# Altium schematic symbol library Virtex.SchLib: 30 symbols
Pins are listed as number, name and electrical type; pins without a type are passive.

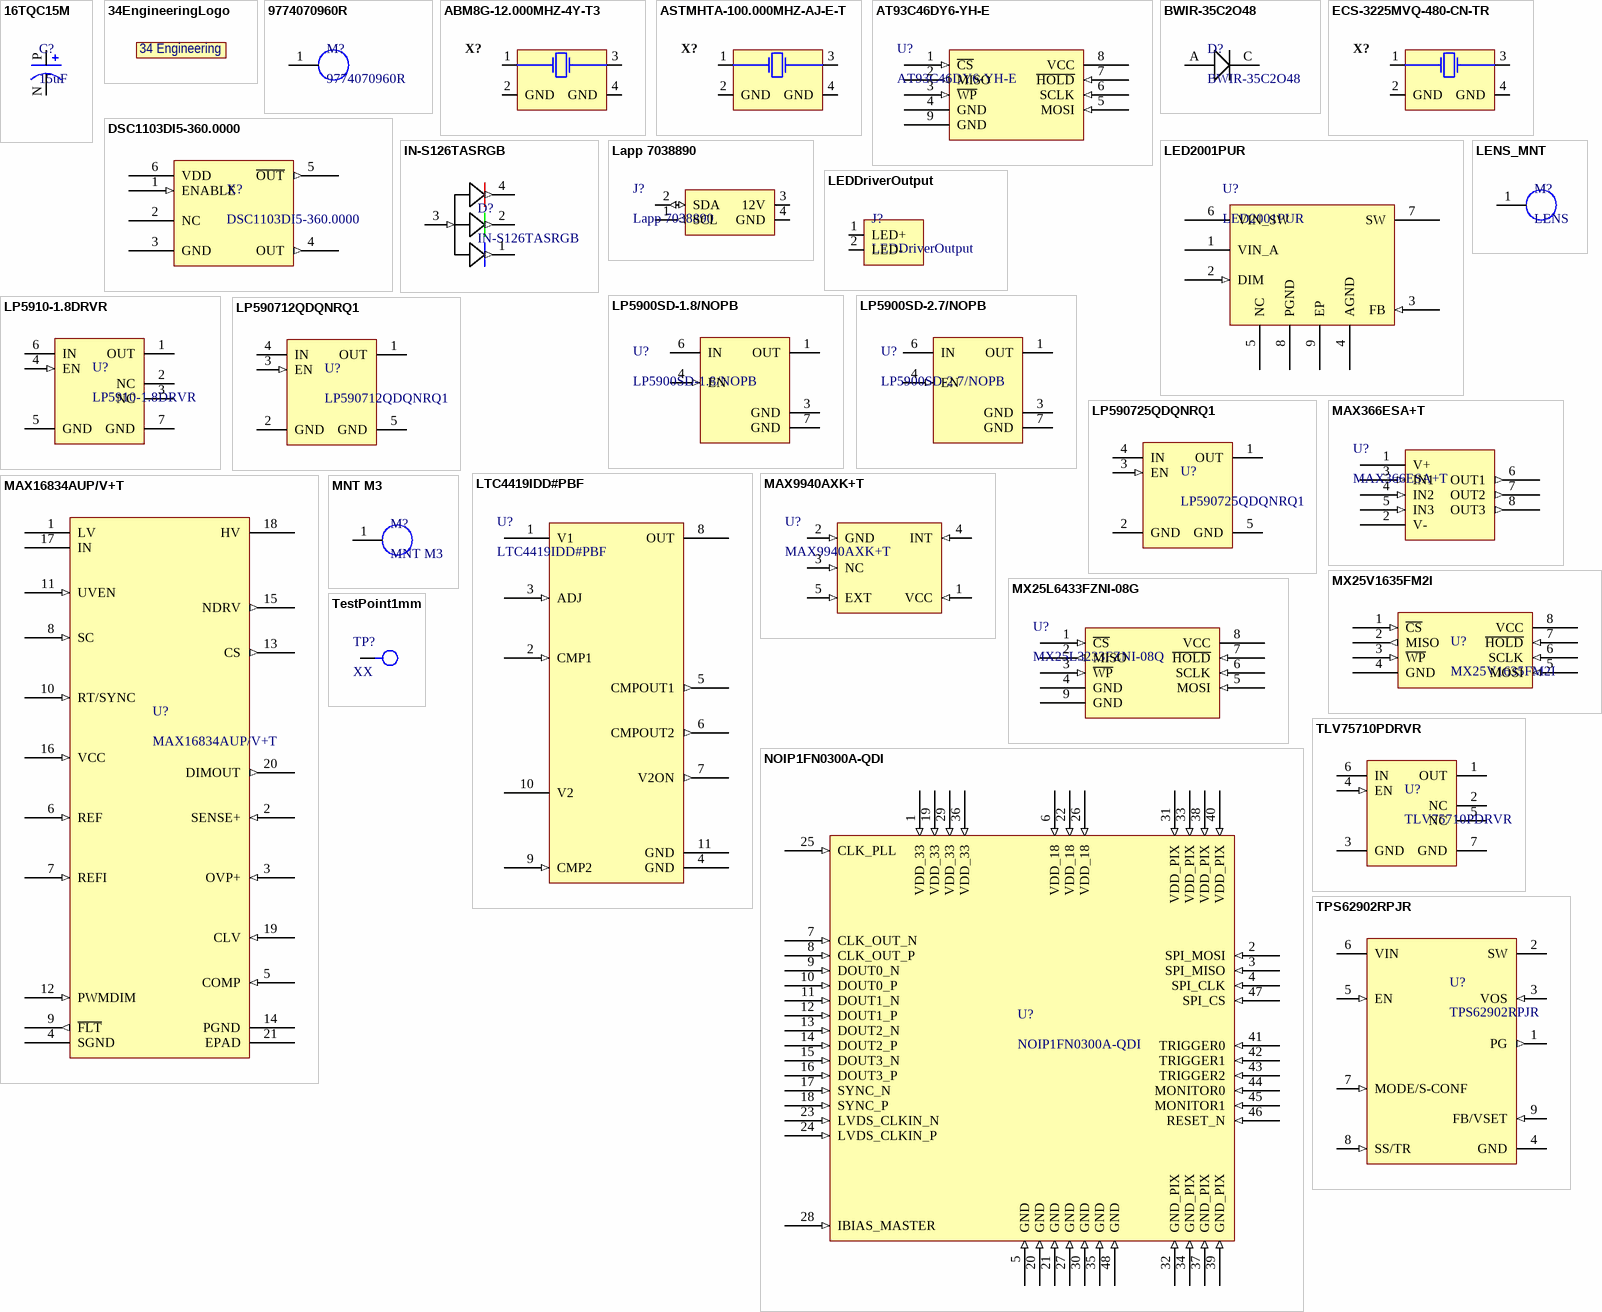
[diagram p0: symbols 16TQC15M to TPS62902RPJR]

## 16TQC15M
designator C?, comment 15uF
Polymer capacitor 15 uF 16 VDC, 16TQC15M, Panasonic Automotive & Industrial Systems; Tolerance: 20%; Voltage Rating: 16V; ESR (Equivalent Series Resistance): 90mR; Ripple Current: 1A; Leakage Current: 72uA; Polarity: Polar; Life (Hours): 2000Hour; Dissipation Factor: 10%; Supplier 1: Digi-Key; RoHS: Yes; Stock 1: 1294; Pricing 1: 1=2.02000, 10=1.59300, 50=1.38060, 100=1.19470, 500=0.90264, 1000=0.79646 (USD); Mount: Surface Mount; Case/Package: 1411; Number of Pins: 2; Case Code (Metric): 3528; Case Code (Imperial): 1411; Min Operating Temperature: -55°C; Max Operating Temperature: 105°C; Capacitance: 15uF; Package Quantity: 2000; Packaging: Tape and Reel; Voltage Rating (DC): 16V; Termination: SMD/SMT; Voltage: 16V; Features: General Purpose; Length: 3.5mm; Width: 0.11inch; Height: 1.9mm; Height - Seated (Max): 0.079inch; Depth: 2.8mm; Radiation Hardening: No; REACH SVHC: No SVHC; Lead Free: Lead Free; RoHS Compliant: Yes; ComponentLink1URL: https://datasheet.ciiva.com/25784/1734368-25784922.pdf?src-supplier=Farnell; ComponentLink1Description: https://datasheet.ciiva.com/25784/1734368-25784922.pdf?src-supplier=Farnell; ComponentLink2URL: https://datasheet.ciiva.com/48675/aaa8000ce14-48675000.pdf?src-supplier=Avnet; ComponentLink2Description: https://datasheet.ciiva.com/48675/aaa8000ce14-48675000.pdf?src-supplier=Avnet; ComponentLink3URL: https://datasheet.ciiva.com/48543/tqc-series-eng-tds-48543116.pdf?src-supplier=Distrelec; ComponentLink3Description: https://datasheet.ciiva.com/48543/tqc-series-eng-tds-48543116.pdf?src-supplier=Distrelec; Manufacturer Part Number: 16TQC15M; Manufacturer: Panasonic; Supplier Part Number 1: P16485CT-ND; Category: Tantalum Capacitors
footprint 16TQC15M
pins: N, P

## 34EngineeringLogo
designator ?, comment 34 Engineering Logo  (value not drawn)
34 Engineering Silkscreen Logo
footprint 34EngineeringLogo
text: 34 Engineering

## 9774070960R
designator M?
WURTH ELEKTRONIK - 9774070960R - Abstandhalter, SMD, Stahl, rund, Durchgangsloch, 6mm x 7mm, 3.3mm Innen-Ø, Produktreihe WA-SMST; Manufacturer: Wurth Electronics; Plating: Tin; Threaded/Unthreaded: Unthreaded; Inside Diameter: 0.13inch; Outside Diameter: 0.236inch; Supplier 1: Digi-Key; Manufacturer Part Number: 9774070960R; RoHS: Yes; Category: Spacers, Standoffs; Stock 1: 8951; Pricing 1: 1=1.73000, 10=1.65800, 50=1.45600, 100=1.35500 (USD); Material: Steel; Length: 0.33inch; REACH SVHC: Unknown; ComponentLink1URL: http://www.mouser.com/ds/2/445/9774070960R-611130.pdf?src-supplier=Mouser; ComponentLink1Description: http://www.mouser.com/ds/2/445/9774070960R-611130.pdf?src-supplier=Mouser; ComponentLink2URL: http://www.farnell.com/datasheets/1960400.pdf?src-supplier=Farnell; ComponentLink2Description: http://www.farnell.com/datasheets/1960400.pdf?src-supplier=Farnell; ComponentLink3URL: https://media.digikey.com/pdf/Data%20Sheets/Wurth%20Electronics%20PDFs/WA-SMSx_Performance_Flyer.pdf?src-supplier=Digi-Key; ComponentLink3Description: https://media.digikey.com/pdf/Data%20Sheets/Wurth%20Electronics%20PDFs/WA-SMSx_Performance_Flyer.pdf?src-supplier=Digi-Key; ComponentLink4URL: http://www.farnell.com/datasheets/1960400.pdf?src-supplier=Newark; ComponentLink4Description: http://www.farnell.com/datasheets/1960400.pdf?src-supplier=Newark; ComponentLink5URL: http://www.farnell.com/datasheets/1960400.pdf?src-supplier=Element14; ComponentLink5Description: http://www.farnell.com/datasheets/1960400.pdf?src-supplier=Element14; Supplier Part Number 1: 732-7109-1-ND
footprint 9774070960R
pins: 1

## ABM8G-12.000MHZ-4Y-T3
designator X?  (value not drawn)
ABRACON - ABM8G-12.000MHZ-4Y-T3 - CRYSTAL, 12MHZ, 10PF, 3.2 X 2.5MM; ESR (Equivalent Series Resistance): 120R; Frequency Tolerance: 30ppm; Supplier 1: Digi-Key; RoHS: Yes; Stock 1: 11481; Pricing 1: 1=0.67000, 10=0.59600, 50=0.55720, 100=0.49250, 500=0.46656, 1000=0.38880 (USD); Mount: Surface Mount; Case/Package: CSMD; Number of Pins: 4; Min Operating Temperature: -10°C; Max Operating Temperature: 60°C; Frequency: 12MHz; Load Capacitance: 10pF; Packaging: Tape and Reel; Frequency Stability: 30ppm; Series: ABM8G; Series Resistance: 120R; Operating Frequency: 12 MHz; Length: 3.2mm; Width: 0.098inch; Height: 0.039inch; Depth: 2.5mm; REACH SVHC: No SVHC; Lead Free: Lead Free; ComponentLink1URL: https://datasheet.ciiva.com/15116/getdatasheetpartid-719872-15116768.pdf?src-supplier=Verical; ComponentLink1Description: https://datasheet.ciiva.com/15116/getdatasheetpartid-719872-15116768.pdf?src-supplier=Verical; ComponentLink2URL: https://datasheet.ciiva.com/857/abm8g-857959.pdf?src-supplier=Digi-Key; ComponentLink2Description: https://datasheet.ciiva.com/857/abm8g-857959.pdf?src-supplier=Digi-Key; ComponentLink3URL: https://datasheet.ciiva.com/857/abm8g-857960.pdf?src-supplier=Digi-Key; ComponentLink3Description: https://datasheet.ciiva.com/857/abm8g-857960.pdf?src-supplier=Digi-Key; ComponentLink4URL: https://datasheet.ciiva.com/857/abm8g-857961.pdf?src-supplier=Digi-Key; ComponentLink4Description: https://datasheet.ciiva.com/857/abm8g-857961.pdf?src-supplier=Digi-Key; ComponentLink5URL: https://datasheet.ciiva.com/16216/abm8g-16216655.pdf?src-supplier=Future+Electronics; ComponentLink5Description: https://datasheet.ciiva.com/16216/abm8g-16216655.pdf?src-supplier=Future+Electronics; Manufacturer Part Number: ABM8G-12.000MHZ-4Y-T3; Manufacturer: Abracon; Supplier Part Number 1: 535-10901-1-ND; Category: Crystals
footprint ABM8G-12.000MHZ-4Y-T3
pins: 1, 2 GND (power), 3, 4 GND (power)

## ASTMHTA-100.000MHZ-AJ-E-T
designator X?, comment ASDMB-100.000MHZ-XY-T  (value not drawn)
MEMS OSC XO 100.0000MHZ LVCMOS; Manufacturer Part Number: ASTMHTA-100.000MHZ-AJ-E-T; Manufacturer: Abracon; Frequency: 100MHz; Load Capacitance: 15pF; Operating Supply Voltage: 3.6V; Frequency Stability: 10ppm; Max Supply Current: 16mA; RoHS: Yes; Stock 1: 2824; Pricing 1: 1=3.08000, 10=2.93800, 50=2.79080, 100=2.49700, 500=2.35008 (USD); Mount: Surface Mount; Case/Package: SMD/SMT; Number of Pins: 4; Min Operating Temperature: -40°C; Max Operating Temperature: 105°C; Packaging: Tape and Reel; Termination: SMD/SMT; Series: Pure Silicon™ ASDMB; Length: 0.098inch; Width: 0.079inch; Height: 0.035inch; Radiation Hardening: No; RoHS Compliant: Yes; Lead Free: Lead Free; ComponentLink1URL: https://datasheet.ciiva.com/1389/1750124-1389392.pdf?src-supplier=Newark; ComponentLink1Description: https://datasheet.ciiva.com/1389/1750124-1389392.pdf?src-supplier=Newark; ComponentLink2URL: https://datasheet.ciiva.com/866/asdmb-866812.pdf?src-supplier=Digi-Key; ComponentLink2Description: https://datasheet.ciiva.com/866/asdmb-866812.pdf?src-supplier=Digi-Key; ComponentLink3URL: https://datasheet.ciiva.com/866/asdmb-866813.pdf?src-supplier=Digi-Key; ComponentLink3Description: https://datasheet.ciiva.com/866/asdmb-866813.pdf?src-supplier=Digi-Key; ComponentLink4URL: https://datasheet.ciiva.com/866/asdmb-866814.pdf?src-supplier=Digi-Key; ComponentLink4Description: https://datasheet.ciiva.com/866/asdmb-866814.pdf?src-supplier=Digi-Key; ComponentLink5URL: https://datasheet.ciiva.com/3177/asdmb-3177639.pdf?src-supplier=Avnet; ComponentLink5Description: https://datasheet.ciiva.com/3177/asdmb-3177639.pdf?src-supplier=Avnet; Category: Oscillators; Supplier 1: Digi-Key; Supplier Part Number 1: 535-15297-1-ND
footprint ASTMHTA-100.000MHZ-AJ-E-T
pins: 1, 2 GND (power), 3, 4 GND (power)

## AT93C46DY6-YH-E
designator U?
EEPROM Memory IC 1Kb (128 x 8, 64 x 16) SPI 8-UDFN (2x3); Manufacturer: Microchip; Manufacturer Part Number: AT25040B-MAHL-E; RoHS: Yes; Supplier 1: Digi-Key; Supplier Part Number 1: AT93C46DY6-YH-ECT-ND
footprint AT93C46DY6-YH-E
pins: 1 ~{CS} (in), 2 MISO (out), 3 ~{WP} (in), 4 GND (power), 5 MOSI (in), 6 SCLK (in), 7 ~{HOLD} (in), 8 VCC (power), 9 GND (power)

## BWIR-35C2O48
designator D?
Infrared (IR) Emitter 850nm 1.7V 1A 260mW/sr @ 1A (Typ) 120° 1414 (3535 Metric); Manufacturer: American Bright; Supplier 1: Digi-Key; Manufacturer Part Number: BWIR-35C2O48; RoHS: No; Stock 1: 22417; Pricing 1: 1=2.11000, 10=1.40800, 100=1.08350, 500=0.97944, 1000=0.86625 (USD); Packaging: Tape and Reel; Supplier Part Number 1: BWIR-35C2O48CT-ND
footprint BWIR-35C2O48
pins: A (power), C (power)

## DSC1103DI5-360.0000
designator X?
Mems Oscillator, Low Power, Lvds, -40C-85C, 10Ppm, 2.5X2.0Mm6 Vdfn 2.0X2.5Mm Tube; Manufacturer: Microchip; Supplier 1: Digi-Key; Manufacturer Part Number: DSC1103DI5-360.0000; RoHS: Yes; Category: Oscillators; Stock 1: 706; Pricing 1: 1=5.51000, 25=4.59000, 100=4.51500 (USD); RoHS Compliant: Yes; Supplier Part Number 1: DSC1103DI5-360.0000-ND
footprint DSC1103DI5-360.0000
pins: 1 ENABLE (in), 2 NC, 3 GND (power), 4 OUT (out), 5 ~{OUT} (out), 6 VDD (power)

## ECS-3225MVQ-480-CN-TR
designator X?  (value not drawn)
48 MHz XO (Standard) HCMOS Oscillator 1.7V ~ 3.63V Enable/Disable 4-SMD, No Lead; Manufacturer Part Number: ABM8G-12.000MHZ-4Y-T3; Manufacturer: Abracon; ESR (Equivalent Series Resistance): 120R; Frequency: 12MHz; Load Capacitance: 10pF; Frequency Tolerance: 30ppm; Operating Frequency: 12 MHz; RoHS: Yes; Stock 1: 11481; Pricing 1: 1=0.67000, 10=0.59600, 50=0.55720, 100=0.49250, 500=0.46656, 1000=0.38880 (USD); Mount: Surface Mount; Case/Package: CSMD; Number of Pins: 4; Min Operating Temperature: -10°C; Max Operating Temperature: 60°C; Packaging: Tape and Reel; Frequency Stability: 30ppm; Series: ABM8G; Series Resistance: 120R; Length: 3.2mm; Width: 0.098inch; Height: 0.039inch; Depth: 2.5mm; REACH SVHC: No SVHC; Lead Free: Lead Free; ComponentLink1URL: https://datasheet.ciiva.com/15116/getdatasheetpartid-719872-15116768.pdf?src-supplier=Verical; ComponentLink1Description: https://datasheet.ciiva.com/15116/getdatasheetpartid-719872-15116768.pdf?src-supplier=Verical; ComponentLink2URL: https://datasheet.ciiva.com/857/abm8g-857959.pdf?src-supplier=Digi-Key; ComponentLink2Description: https://datasheet.ciiva.com/857/abm8g-857959.pdf?src-supplier=Digi-Key; ComponentLink3URL: https://datasheet.ciiva.com/857/abm8g-857960.pdf?src-supplier=Digi-Key; ComponentLink3Description: https://datasheet.ciiva.com/857/abm8g-857960.pdf?src-supplier=Digi-Key; ComponentLink4URL: https://datasheet.ciiva.com/857/abm8g-857961.pdf?src-supplier=Digi-Key; ComponentLink4Description: https://datasheet.ciiva.com/857/abm8g-857961.pdf?src-supplier=Digi-Key; ComponentLink5URL: https://datasheet.ciiva.com/16216/abm8g-16216655.pdf?src-supplier=Future+Electronics; ComponentLink5Description: https://datasheet.ciiva.com/16216/abm8g-16216655.pdf?src-supplier=Future+Electronics; Category: Crystals; Supplier 1: Digi-Key; Supplier Part Number 1: 50-ECS-3225MVQ-480-CN-CT-ND
footprint ECS-3225MVQ-480-CN-TR
pins: 1, 2 GND (power), 3, 4 GND (power)

## IN-S126TASRGB
designator D?
LED Tri-Color Blue/Green/Red 470nm/523nm/625nm Automotive 4-Pin Chip 1206(3216Metric) T/R; Manufacturer: Inolux; Supplier 1: Digi-Key; Manufacturer Part Number: IN-S126TASRGB; RoHS: No; Category: LEDs; Stock 1: 49322; Pricing 1: 1=0.58000, 10=0.37900, 100=0.25070, 1000=0.19356 (USD); Supplier Part Number 1: 1830-1052-1-ND
footprint IN-S126TASRGB
pins: 1 (out), 2 (out), 3 (in), 4 (out)

## Lapp 7038890
designator J?
footprint Lapp 7038890
pins: 1 SCL (out), 2 SDA (io), 3 12V (power), 4 GND (power)

## LED2001PUR
designator U?
LED DRVR 3Segment 3.3V/5V/9V/12V/15V Automotive 8-Pin VFQFPN EP T/R; Manufacturer: STMicroelectronics; Min Input Voltage: 3V; Max Input Voltage: 18V; Switching Frequency: 850kHz; Max Output Voltage: -1V; Max Output Current: 4A; Number of Outputs: 1; Power Dissipation: 2W; Max Supply Current: 2.5mA; Number of Segments: 3; Dimming: PWM; Max Duty Cycle: 100%; Output Type: Adjustable; Supplier 1: Digi-Key; Manufacturer Part Number: LED2001PUR; RoHS: Yes; Category: LED Drivers; Stock 1: 3002; Pricing 1: 1=2.72000, 10=2.44200, 25=2.30400, 100=1.96290, 250=1.84312, 500=1.61274, 1000=1.52145 (USD); Mount: Surface Mount; Case/Package: VQFN; Number of Pins: 8; Min Operating Temperature: -40°C; Max Operating Temperature: 150°C; Min Output Voltage: 18V; Output Current: 4A; Frequency: 850kHz; Max Supply Voltage: 18V; Min Supply Voltage: 3V; Packaging: Tape and Reel; Package Quantity: 1; Output Current per Channel: 4A; Quiescent Current: 2.5mA; Length: 4.1mm; Width: 4.1mm; Height: 0.95mm; REACH SVHC: No SVHC; Lead Free: Lead Free; RoHS Compliant: Yes; ComponentLink1URL: https://datasheet.ciiva.com/41458/001184945-da-01-en-ic-reg-buck-4a-mon-led2001pur-vqfn-8-stm-41458060.pdf?src-supplier=Conrad; ComponentLink1Description: https://datasheet.ciiva.com/41458/001184945-da-01-en-ic-reg-buck-4a-mon-led2001pur-vqfn-8-stm-41458060.pdf?src-supplier=Conrad; ComponentLink2URL: https://datasheet.ciiva.com/18569/dm00079085-18569110.pdf?src-supplier=Digi-Key; ComponentLink2Description: https://datasheet.ciiva.com/18569/dm00079085-18569110.pdf?src-supplier=Digi-Key; ComponentLink3URL: https://datasheet.ciiva.com/18569/dm00079085-18569111.pdf?src-supplier=Digi-Key; ComponentLink3Description: https://datasheet.ciiva.com/18569/dm00079085-18569111.pdf?src-supplier=Digi-Key; ComponentLink4URL: https://datasheet.ciiva.com/18569/dm00079085-18569112.pdf?src-supplier=Digi-Key; ComponentLink4Description: https://datasheet.ciiva.com/18569/dm00079085-18569112.pdf?src-supplier=Digi-Key; Supplier Part Number 1: 497-13853-1-ND
pins: 1 VIN_A (power), 2 DIM (in), 3 FB (in), 4 AGND (power), 5 NC (oc), 6 VIN_SW (power), 7 SW (power), 8 PGND (power), 9 EP (power)

## LEDDriverOutput
designator J?
Output pads from the LED Driver
footprint LEDDriverOutput
pins: 1 LED+ (power), 2 LED- (power)

## LENS_MNT
designator M?, comment LENS
Virtex Python 300 Lens Mount 34V0-LN-MNT
footprint LENS_MNT
pins: 1

## LP5900SD-1.8/NOPB
designator U?
TEXAS INSTRUMENTS         LP5900SD-1.8/NOPB.             LDO VOLTAGE REGULATOR, 3.3V, 150mA, LLP-6, FULL REEL; Output Voltage: 1.8V; Min Input Voltage: 2.5V; Max Input Voltage: 5.5V; Number of Outputs: 1; Polarity: Positive; Quiescent Current: 50uA; Accuracy: 2%; Output Type: Fixed; Dropout Voltage: 150mV; Supplier 1: Digi-Key; RoHS: Yes; Stock 1: 9836; Pricing 1: 1=0.87000, 10=0.77000, 25=0.72280, 100=0.59000, 250=0.54800, 500=0.46640 (USD); Mount: Surface Mount; Number of Pins: 6; Min Operating Temperature: -40°C; Max Operating Temperature: 125°C; Output Current: 150mA; Package Quantity: 1000; Max Output Current: 150mA; Nominal Output Voltage: 1.8V; Packaging: Tape and Reel; Output Voltage Accuracy: 2%; Length: 2.2mm; Width: 2.5mm; Height: 0.8mm; Radiation Hardening: No; REACH SVHC: No SVHC; Lead Free: Lead Free; RoHS Compliant: Yes; ComponentLink1URL: https://datasheet.ciiva.com/6598/lp5900-6598182.pdf?src-supplier=Digi-Key; ComponentLink1Description: https://datasheet.ciiva.com/6598/lp5900-6598182.pdf?src-supplier=Digi-Key; ComponentLink2URL: https://datasheet.ciiva.com/6598/lp5900-6598185.pdf?src-supplier=Digi-Key; ComponentLink2Description: https://datasheet.ciiva.com/6598/lp5900-6598185.pdf?src-supplier=Digi-Key; ComponentLink3URL: https://datasheet.ciiva.com/6598/lp5900-6598187.pdf?src-supplier=Digi-Key; ComponentLink3Description: https://datasheet.ciiva.com/6598/lp5900-6598187.pdf?src-supplier=Digi-Key; ComponentLink4URL: https://datasheet.ciiva.com/26175/lp5900-26175289.pdf?src-supplier=Avnet+Europe; ComponentLink4Description: https://datasheet.ciiva.com/26175/lp5900-26175289.pdf?src-supplier=Avnet+Europe; ComponentLink5URL: https://datasheet.ciiva.com/14278/lp5900-14278125.pdf?src-supplier=Avnet; ComponentLink5Description: https://datasheet.ciiva.com/14278/lp5900-14278125.pdf?src-supplier=Avnet; ComponentLink6URL: https://datasheet.ciiva.com/28643/1772310-28643116.pdf?src-supplier=Element14; ComponentLink6Description: https://datasheet.ciiva.com/28643/1772310-28643116.pdf?src-supplier=Element14; ComponentLink7URL: https://datasheet.ciiva.com/22678/1772310-22678013.pdf?src-supplier=Element14; ComponentLink7Description: https://datasheet.ciiva.com/22678/1772310-22678013.pdf?src-supplier=Element14; Category: Voltage Regulators - Linear; Manufacturer Part Number: LP5900SD-1.8/NOPB; Manufacturer: Texas Instruments; Supplier Part Number 1: LP5900SD-1.8/NOPBCT-ND
footprint LP5900-WSON
pins: 1 OUT (power), 3 GND (power), 4 EN (in), 6 IN (power), 7 GND (power)

## LP5900SD-2.7/NOPB
designator U?
LDO Regulator Pos 2.7V 0.15A 6-Pin WSON EP T/R; Manufacturer: TI National Semiconductor; Output Current: 150mA; Number of Outputs: 1; Min Input Voltage: 2.5V; Max Input Voltage: 5.5V; Polarity: Positive; Quiescent Current: 50uA; Accuracy: 2%; Output Type: Fixed; Dropout Voltage: 80mV; Supplier 1: Digi-Key; RoHS: Yes; Stock 1: 2483; Pricing 1: 1=0.87000, 10=0.77000, 25=0.72280, 100=0.59000, 250=0.54800, 500=0.46640 (USD); Mount: Surface Mount; Number of Pins: 6; Min Operating Temperature: -40°C; Max Operating Temperature: 125°C; Output Voltage: 2.7V; Package Quantity: 1000; Max Output Current: 150mA; Packaging: Tape and Reel; Number of Regulators: 1; Output Voltage Accuracy: 2%; Radiation Hardening: No; Lead Free: Lead Free; RoHS Compliant: Yes; ComponentLink1URL: https://datasheet.ciiva.com/6598/lp5900-6598117.pdf?src-supplier=Digi-Key; ComponentLink1Description: https://datasheet.ciiva.com/6598/lp5900-6598117.pdf?src-supplier=Digi-Key; Category: Voltage Regulators - Linear; Manufacturer Part Number: LP5900SD-2.7/NOPB; Supplier Part Number 1: LP5900SD-2.7/NOPBCT-ND
footprint LP5900-WSON
pins: 1 OUT (power), 3 GND (power), 4 EN (in), 6 IN (power), 7 GND (power)

## LP5910-1.8DRVR
designator U?
IC REG LINEAR 1.8V 300MA 6SON; Manufacturer: Texas Instruments; Dropout Voltage: 145mV; Number of Regulators: 1; Quiescent Current: 12uA; Supplier 1: Digi-Key; RoHS: Yes; Stock 1: 556; Pricing 1: 1=0.63000, 10=0.53700, 25=0.50080, 100=0.40070, 250=0.37208, 500=0.31482, 1000=0.24327 (USD); Mount: Surface Mount; Min Operating Temperature: -40°C; Max Operating Temperature: 125°C; Packaging: Tape and Reel; Output Voltage: 1.8V; Output Current: 300mA; Lead Free: Lead Free; RoHS Compliant: Yes; ComponentLink1URL: http://www.ti.com/general/docs/suppproductinfo.tsp?distId=10&amp;gotoUrl=http%3A%2F%2Fwww.ti.com%2Flit%2Fgpn%2Flp5910&src-supplier=Digi-Key; ComponentLink1Description: http://www.ti.com/general/docs/suppproductinfo.tsp?distId=10&amp;gotoUrl=http%3A%2F%2Fwww.ti.com%2Flit%2Fgpn%2Flp5910&src-supplier=Digi-Key; ComponentLink2URL: http://www.ti.com/lit/ds/symlink/lp5910.pdf?src-supplier=Digi-Key; ComponentLink2Description: http://www.ti.com/lit/ds/symlink/lp5910.pdf?src-supplier=Digi-Key; Manufacturer Part Number: LP5910-1.8DRVR; Supplier Part Number 1: 296-47212-1-ND; Category: Voltage Regulators - Linear
footprint LP5910
pins: 1 OUT (power), 2 NC, 3 NC, 4 EN (in), 5 GND (power), 6 IN (power), 7 GND (power)

## LP590712QDQNRQ1
designator U?
Automotive, 250-mA, low-noise, high-PSRR, ultra-low-dropout voltage regulator with low IQ and enable; Manufacturer: Texas Instruments; Supplier 1: Digi-Key; RoHS: Yes; Stock 1: 2758; Pricing 1: 1=0.64000, 10=0.56000, 25=0.52560, 100=0.42910, 250=0.39856, 500=0.33920, 1000=0.28000 (USD); Supplier Part Number 1: 296-LP590712QDQNRQ1CT-ND; Manufacturer Part Number: LP590712QDQNRQ1; Category: Integrated Circuits (ICs)
footprint LP5907
pins: 1 OUT (power), 2 GND (power), 3 EN (in), 4 IN (power), 5 GND (power)

## LP590725QDQNRQ1
designator U?
LDO Regulator Pos 1.2V to 4.5V 0.25A 4-Pin X2SON EP T/R; Manufacturer: Texas Instruments; Supplier 1: Digi-Key; RoHS: Yes; Stock 1: 2810; Pricing 1: 1=0.64000, 10=0.56000, 25=0.52560, 100=0.42910, 250=0.39856, 500=0.33920, 1000=0.28000 (USD); Manufacturer Part Number: LP590725QDQNRQ1; Supplier Part Number 1: 296-LP590725QDQNRQ1CT-ND; Category: Integrated Circuits (ICs)
footprint LP5907
pins: 1 OUT (power), 2 GND (power), 3 EN (in), 4 IN (power), 5 GND (power)

## LTC4419IDD#PBF
designator U?
IC SOURCE SELECTOR SWITCH 10DFN; Manufacturer: Analog Devices / Linear Technology; Min Supply Voltage: 1.8V; Max Supply Voltage: 18V; Supplier 1: Digi-Key; RoHS: Yes; Stock 1: 2936; Pricing 1: 1=7.57000, 10=6.83700, 25=6.51920, 100=5.66040, 250=5.40600, 500=4.92900, 1000=4.50000 (USD); Case/Package: DFN; Number of Pins: 10; Min Operating Temperature: 0°C; Max Operating Temperature: 70°C; REACH SVHC: No SVHC; RoHS Compliant: Yes; ComponentLink1URL: http://www.farnell.com/datasheets/2124270.pdf?src-supplier=Farnell; ComponentLink1Description: http://www.farnell.com/datasheets/2124270.pdf?src-supplier=Farnell; ComponentLink2URL: http://www.linear.com/docs/54122?src-supplier=Digi-Key; ComponentLink2Description: http://www.linear.com/docs/54122?src-supplier=Digi-Key; ComponentLink3URL: http://www.farnell.com/datasheets/2124270.pdf?src-supplier=Element14; ComponentLink3Description: http://www.farnell.com/datasheets/2124270.pdf?src-supplier=Element14; Category: Power Management ICs; Manufacturer Part Number: LTC4419IDD#PBF; Supplier Part Number 1: LTC4419IDD#PBF-ND
footprint LTC4419IDD#PBF
pins: 1 V1 (power), 2 CMP1 (in), 3 ADJ (in), 4 GND (power), 5 CMPOUT1 (out), 6 CMPOUT2 (out), 7 V2ON (out), 8 OUT (power), 9 CMP2 (in), 10 V2 (power), 11 GND (power)

## MAX366ESA+T
designator U?
Hot Swap Voltage Controllers Signal Line Circuit Protector; Manufacturer: Maxim; Number of Circuits: 3; Clamping Voltage: 40V; Max Power Dissipation: 471mW; Supplier 1: Mouser; RoHS: Yes; Stock 1: 2323; Pricing 1: 1=5.00000, 10=4.40000, 50=4.16000, 100=3.63000, 1000=3.30000, 10000=3.18000 (USD); Case/Package: SOIC; Min Operating Temperature: -40°C; Max Operating Temperature: 85°C; Packaging: Tape and Reel; Package Quantity: 2500; Series: MAX366; Radiation Hardening: No; RoHS Compliant: Yes; ComponentLink1URL: https://datasheet.ciiva.com/26787/max366esa-t-26787912.pdf?src-supplier=IIIC; ComponentLink1Description: https://datasheet.ciiva.com/26787/max366esa-t-26787912.pdf?src-supplier=IIIC; ComponentLink2URL: https://datasheet.ciiva.com/16617/max366-max367-16617322.pdf?src-supplier=Avnet+Europe; ComponentLink2Description: https://datasheet.ciiva.com/16617/max366-max367-16617322.pdf?src-supplier=Avnet+Europe; ComponentLink3URL: https://datasheet.ciiva.com/361/max366-max367-361731.pdf?src-supplier=Digi-Key; ComponentLink3Description: https://datasheet.ciiva.com/361/max366-max367-361731.pdf?src-supplier=Digi-Key; Category: Interface ICs; Manufacturer Part Number: MAX366ESA+T; Supplier Part Number 1: 700-MAX366ESAT
footprint MAX366ESA+T
pins: 1 V+ (power), 2 V- (power), 3 IN1 (in), 4 IN2 (in), 5 IN3 (in), 6 OUT1 (out), 7 OUT2 (out), 8 OUT3 (out)

## MAX9940AXK+T
designator U?
MAXIM INTEGRATED PRODUCTS         MAX9940AXK+T             OVERVOLTAGE PROTECTION CTRL, UMAX-8; Max Supply Voltage: 5.5V; Min Supply Voltage: 2.2V; Nominal Supply Current: 13uA; Clamping Voltage: 28V; Number of Circuits: 1; Max Power Dissipation: 245mW; Supplier 1: RSComponents; Manufacturer: Maxim; Manufacturer Part Number: MAX9940AXK+T; RoHS: Yes; Category: Power Management ICs; Stock 1: 1; Pricing 1: 2500=0.77900 (USD); Number of Pins: 5; Min Operating Temperature: -40°C; Max Operating Temperature: 125°C; Package Quantity: 2500; Packaging: Tape and Reel; Working Voltage: 5.5V; Series: MAX9940; Supply Current: 13uA; Radiation Hardening: No; REACH SVHC: Unknown; RoHS Compliant: Yes; ComponentLink1URL: https://datasheet.ciiva.com/329/max9940-329539.pdf?src-supplier=Digi-Key; ComponentLink1Description: https://datasheet.ciiva.com/329/max9940-329539.pdf?src-supplier=Digi-Key; ComponentLink2URL: https://datasheet.ciiva.com/4875/max9940-110501-4875386.pdf?src-supplier=Mouser; ComponentLink2Description: https://datasheet.ciiva.com/4875/max9940-110501-4875386.pdf?src-supplier=Mouser; ComponentLink3URL: https://datasheet.ciiva.com/25893/max9940-25893924.pdf?src-supplier=Avnet+Europe; ComponentLink3Description: https://datasheet.ciiva.com/25893/max9940-25893924.pdf?src-supplier=Avnet+Europe; ComponentLink4URL: https://datasheet.ciiva.com/26787/max9940axk-t-26787222.pdf?src-supplier=IIIC; ComponentLink4Description: https://datasheet.ciiva.com/26787/max9940axk-t-26787222.pdf?src-supplier=IIIC; ComponentLink5URL: https://datasheet.ciiva.com/329/max9940-329540.pdf?src-supplier=Digi-Key; ComponentLink5Description: https://datasheet.ciiva.com/329/max9940-329540.pdf?src-supplier=Digi-Key; ComponentLink6URL: https://datasheet.ciiva.com/329/max9940-329541.pdf?src-supplier=Digi-Key; ComponentLink6Description: https://datasheet.ciiva.com/329/max9940-329541.pdf?src-supplier=Digi-Key; ComponentLink7URL: https://datasheet.ciiva.com/3011/max9940-3011992.pdf?src-supplier=Avnet; ComponentLink7Description: https://datasheet.ciiva.com/3011/max9940-3011992.pdf?src-supplier=Avnet; Supplier Part Number 1: 1904878
footprint MAX9940AXK+T
pins: 1 VCC (in), 2 GND (in), 3 NC (in), 4 INT (in), 5 EXT (in)

## MAX16834AUP/V+T
designator U?
IC LED DRVR HIGH BRIGHT 20-TSSOP; Manufacturer: Maxim; Manufacturer Part Number: MAX16834AUP+; Max Power Dissipation: 2.122W; Number of Segments: 100; Operating Supply Voltage: 28V; Number of Outputs: 1; Max Supply Current: 6mA; Topology: SEPIC; Frequency: 1MHz; Output Current: 3A; Min Input Voltage: 4.75V; Supplier 1: Digi-Key; RoHS: Yes; Category: LED Drivers; Stock 1: 756; Pricing 1: 1=6.28000, 10=5.67600, 25=5.41200, 100=4.69920, 250=4.48800, 500=4.09200, 1000=3.96000 (USD); Mount: Surface Mount; Case/Package: TSSOP; Number of Pins: 20; Contact Plating: Tin,Matte; Min Operating Temperature: -40°C; Max Operating Temperature: 125°C; Package Quantity: 74; Packaging: Rail/Tube; Power Dissipation: 2.122W; Series: -; Max Input Voltage: 28V; Switching Frequency: 1MHz; Radiation Hardening: No; RoHS Compliant: Yes; REACH SVHC: Unknown; ComponentLink1URL: https://datasheet.ciiva.com/1946/max16834-1946936.pdf?src-supplier=Digi-Key; ComponentLink1Description: https://datasheet.ciiva.com/1946/max16834-1946936.pdf?src-supplier=Digi-Key; ComponentLink2URL: https://datasheet.ciiva.com/17300/max16834-17300234.pdf?src-supplier=Avnet+Europe; ComponentLink2Description: https://datasheet.ciiva.com/17300/max16834-17300234.pdf?src-supplier=Avnet+Europe; Supplier Part Number 1: MAX16834AUP+-ND; Supplier 2: Avnet; Stock 2: 60000; Pricing 2: 2500=4.44310, 5000=4.38030, 10000=4.31750, 15000=4.25470, 20000=4.19190, 25000=4.12910, 250000=4.06630 (USD); ComponentLink3URL: https://datasheet.ciiva.com/12277/max16834-97839-12277202.pdf?src-supplier=Mouser; ComponentLink3Description: https://datasheet.ciiva.com/12277/max16834-97839-12277202.pdf?src-supplier=Mouser; ComponentLink4URL: https://datasheet.ciiva.com/3163/max16834-3163925.pdf?src-supplier=Avnet; ComponentLink4Description: https://datasheet.ciiva.com/3163/max16834-3163925.pdf?src-supplier=Avnet; ComponentLink5URL: https://datasheet.ciiva.com/1948/max16834-1948686.pdf?src-supplier=Digi-Key; ComponentLink5Description: https://datasheet.ciiva.com/1948/max16834-1948686.pdf?src-supplier=Digi-Key; Supplier Part Number 2: MAX16834AUP/V+T
footprint MAX16834AUPV+T
pins: 1 LV (power), 2 SENSE+ (in), 3 OVP+ (in), 4 SGND (power), 5 COMP (in), 6 REF (in), 7 REFI (in), 8 SC (in), 9 ~{FLT} (out), 10 RT/SYNC (in), 11 UVEN (in), 12 PWMDIM (in), 13 CS (out), 14 PGND (power), 15 NDRV (out), 16 VCC (in), 17 IN (power), 18 HV (power), 19 CLV (in), 20 DIMOUT (out), 21 EPAD (power)

## MNT M3
designator M?
Mounting hole for an M3 bolt
footprint MNT M3
pins: 1

## MX25L6433FZNI-08G
designator U?, comment MX25L3233FZNI-08Q
IC Flash Serial Nor 64MBIT 8WSON; Manufacturer: Macronix; Manufacturer Part Number: MX25L6433FZNI-08G; RoHS: Yes; Stock 1: 2606; Pricing 1: 1=0.75000, 10=0.68700, 25=0.67880, 40=0.67450, 80=0.60313, 230=0.59804, 570=0.58923, 1140=0.56814, 5130=0.51748 (USD); RoHS Compliant: No; Category: Memory; Supplier 1: Digi-Key; Supplier Part Number 1: MX25L6433FZNI-08G-ND
footprint MX25L6433FZNI-08G
pins: 1 ~{CS} (in), 2 MISO (out), 3 ~{WP} (in), 4 GND (power), 5 MOSI (in), 6 SCLK (in), 7 ~{HOLD} (in), 8 VCC (power), 9 GND (power)

## MX25V1635FM2I
designator U?
IC FLASH 16M SPI 80MHZ 8SOP; Manufacturer: Macronix; Memory Type: FLASH,NOR; Interface: SPI,Serial; Supplier 1: Digi-Key; Manufacturer Part Number: MX25V1635FM2I; RoHS: Yes; Category: Memory; Stock 1: 14366; Pricing 1: 1=0.71000, 10=0.64700, 25=0.63880, 50=0.63480, 100=0.56770, 250=0.56288, 500=0.55456, 1000=0.53472, 5000=0.48704 (USD); Case/Package: SOIC; Min Operating Temperature: -40°C; Max Operating Temperature: 85°C; Packaging: Rail/Tube; Frequency: 80MHz; Lead Free: Lead Free; RoHS Compliant: Yes; ComponentLink1URL: http://ckassoc.com/oldsite/pdf/Macronix_Product_Line_Card_July_2017_General%20_070617.pdf?src-supplier=Digi-Key; ComponentLink1Description: http://ckassoc.com/oldsite/pdf/Macronix_Product_Line_Card_July_2017_General%20_070617.pdf?src-supplier=Digi-Key; Supplier Part Number 1: 1092-1189-ND
footprint MX25V1635FM2I
pins: 1 ~{CS} (in), 2 MISO (out), 3 ~{WP} (in), 4 GND (power), 5 MOSI (in), 6 SCLK (in), 7 ~{HOLD} (in), 8 VCC (power)

## NOIP1FN0300A-QDI
designator U?
IC IMAGE SENSOR 0.3MP 48LCC; Manufacturer: ON Semiconductor; Operating Supply Voltage: 3.4V; Supplier 1: Avnet; Manufacturer Part Number: NOIP1FN0300A-QDI; RoHS: Yes; Category: Optoelectronics; Pricing 1: 6=58.23675, 8=57.37875, 20=56.62800, 30=55.87725, 60=55.12650, 300=53.83950, 600=53.41050 (USD); Mount: Surface Mount; Case/Package: LCC; Number of Pins: 48; Min Operating Temperature: -40°C; Max Operating Temperature: 85°C; Lead Free: Lead Free; RoHS Compliant: Yes; ComponentLink1URL: http://www.onsemi.com/pub_link/Collateral/PB_NOIP1SN1300A-D.PDF?src-supplier=Digi-Key; ComponentLink1Description: http://www.onsemi.com/pub_link/Collateral/PB_NOIP1SN1300A-D.PDF?src-supplier=Digi-Key; ComponentLink2URL: http://www.onsemi.com/pub_link/Collateral/NOIP1SN1300A-D.PDF?src-supplier=Avnet+Asia; ComponentLink2Description: http://www.onsemi.com/pub_link/Collateral/NOIP1SN1300A-D.PDF?src-supplier=Avnet+Asia; Supplier Part Number 1: NOIP1FN0300A-QDI
footprint NOIP1FN0300A-QDI
pins: 1 VDD_33 (in), 2 SPI_MOSI (in), 3 SPI_MISO (in), 4 SPI_CLK (in), 5 GND (in), 6 VDD_18 (in), 7 CLK_OUT_N (in), 8 CLK_OUT_P (in), 9 DOUT0_N (in), 10 DOUT0_P (in), 11 DOUT1_N (in), 12 DOUT1_P (in), 13 DOUT2_N (in), 14 DOUT2_P (in), 15 DOUT3_N (in), 16 DOUT3_P (in), 17 SYNC_N (in), 18 SYNC_P (in), 19 VDD_33 (in), 20 GND (in), 21 GND (in), 22 VDD_18 (in), 23 LVDS_CLKIN_N (in), 24 LVDS_CLKIN_P (in), 25 CLK_PLL (in), 26 VDD_18 (in), 27 GND (in), 28 IBIAS_MASTER (in), 29 VDD_33 (in), 30 GND (in), 31 VDD_PIX (in), 32 GND_PIX (in), 33 VDD_PIX (in), 34 GND_PIX (in), 35 GND (in), 36 VDD_33 (in), 37 GND_PIX (in), 38 VDD_PIX (in), 39 GND_PIX (in), 40 VDD_PIX (in), 41 TRIGGER0 (in), 42 TRIGGER1 (in), 43 TRIGGER2 (in), 44 MONITOR0 (in), 45 MONITOR1 (in), 46 RESET_N (in), 47 SPI_CS (in), 48 GND (in)

## TestPoint1mm
designator TP?, comment XX
Test Point 1mm Diameter
footprint TestPoint1mm
pins: 1

## TLV75710PDRVR
designator U?
1-A low-IQ small-size low-dropout (LDO) regulator 6-WSON -40 to 125; Manufacturer Part Number: LP5910-1.0DRVR; Manufacturer: Texas Instruments; Output Voltage: 1V; Output Current: 300mA; Number of Regulators: 1; Quiescent Current: 12uA; Dropout Voltage: 120mV; Output Type: Fixed; Output Configuration: Positive; Max Input Voltage: 5.5V; Max Supply Current: 40uA; Power Supply Rejection Ratio (PSRR): 52dB; RoHS: Yes; Stock 1: 2189; Pricing 1: 1=0.63000, 10=0.53700, 50=0.53700, 100=0.37200, 1000=0.24400, 10000=0.19500 (USD); Mount: Surface Mount; Min Operating Temperature: -40°C; Max Operating Temperature: 125°C; Packaging: Tape and Reel; Lead Free: Lead Free; RoHS Compliant: Yes; ComponentLink1URL: http://www.ti.com/lit/ds/symlink/lp5910.pdf?src-supplier=Digi-Key; ComponentLink1Description: http://www.ti.com/lit/ds/symlink/lp5910.pdf?src-supplier=Digi-Key; ComponentLink2URL: http://www.ti.com/general/docs/suppproductinfo.tsp?distId=10&amp;gotoUrl=http%3A%2F%2Fwww.ti.com%2Flit%2Fgpn%2Flp5910&src-supplier=Digi-Key; ComponentLink2Description: http://www.ti.com/general/docs/suppproductinfo.tsp?distId=10&amp;gotoUrl=http%3A%2F%2Fwww.ti.com%2Flit%2Fgpn%2Flp5910&src-supplier=Digi-Key; Category: Voltage Regulators - Linear; Stock 2: 1477; Pricing 2: 1=0.61000, 10=0.53900, 25=0.50600, 100=0.41300, 250=0.38360, 500=0.32648, 1000=0.26950 (USD); Min Output Voltage: 1V; ComponentLink3URL: http://www.ti.com/lit/ds/symlink/tlv757p.pdf?src-supplier=Digi-Key; ComponentLink3Description: http://www.ti.com/lit/ds/symlink/tlv757p.pdf?src-supplier=Digi-Key; Supplier 1: Digi-Key; Supplier Part Number 1: 296-50004-1-ND
footprint TLV75710PDRVR
pins: 1 OUT (power), 2 NC, 3 GND (power), 4 EN (in), 5 NC, 6 IN (power), 7 GND (power)

## TPS62902RPJR
designator U?
3-V to 17-V, 2-A, high-efficiency and low IQ buck converter 1.5-mm × 2-mm QFN package; Manufacturer: Texas Instruments; Supplier 1: Digi-Key; RoHS: Yes; Stock 1: 7457; Pricing 1: 1=1.81000, 10=1.62400, 25=1.53160, 100=1.30500, 250=1.22536, 500=1.07220, 1000=1.01150 (USD); Supplier Part Number 1: 296-TPS62902RPJRCT-ND; Manufacturer Part Number: TPS62902RPJR; Category: Voltage Regulators - Switching
footprint TPS62902RPJR
pins: 1 PG (out), 2 SW (power), 3 VOS (in), 4 GND (power), 5 EN (in), 6 VIN (power), 7 MODE/S-CONF (in), 8 SS/TR (in), 9 FB/VSET (in)